# Altium footprint library SO-10.PcbLib: 1 footprints
Each footprint in its own frame and in the unit in brackets; x right, y up, seen from the top. Pads: shape width x height; smd on the part's side, far side on the other; paste and mask are expansions set on the pad; w line width, h text height; cw(c..) or ccw(c..) is an arc to the next point about the centre after c.
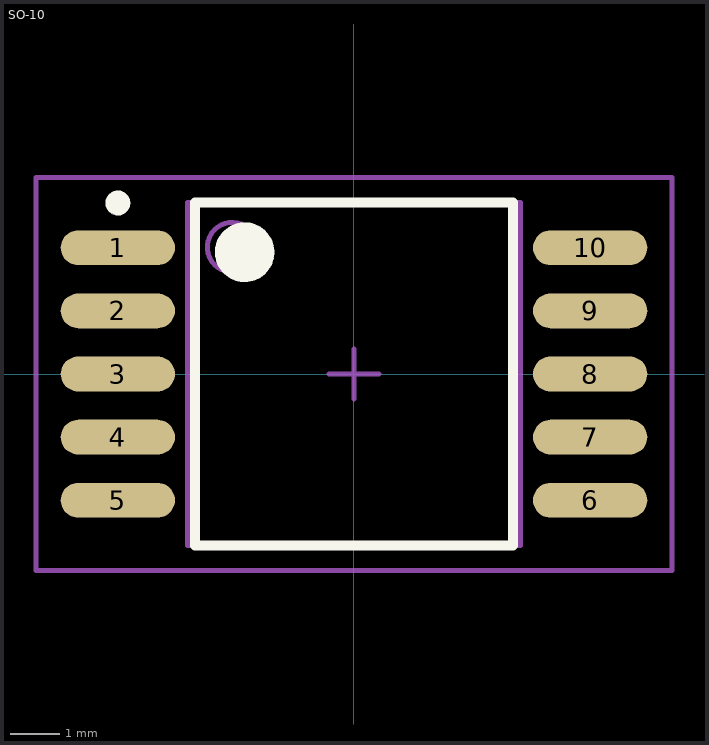
[diagram p0: the footprint, top view; thin cyan lines are the x and y axes]

## SO-10 [mm] "CERPACK, 10-Leads, Body 6.9x6.3mm, Pitch 1.27mm, IPC Low Density"
height 2.25
pads (10):
  oval 2.3x0.7 smd: 1(-4.75,2.54) 2(-4.75,1.27) 3(-4.75,0) 4(-4.75,-1.27) 5(-4.75,-2.54) 6(4.75,-2.54) 7(4.75,-1.27) 8(4.75,0) 9(4.75,1.27) 10(4.75,2.54)
Top Overlay:
  circle w0.25: c-4.75,3.44 r0.125
  circle w0.6: c-2.2,2.45 r0.3
  lines w0.2: -3.2,-3.45 -3.2,3.45 3.2,3.45 3.2,-3.45 -3.2,-3.45
Mechanical 13:
  circle w0.1: c-2.45,2.55 r0.5
  lines w0.1: -3.35,-3.45 -3.35,3.45 3.35,3.45 3.35,-3.45 -3.35,-3.45
Mechanical 15:
  lines w0.1: -0.5,0 0.5,0 ; 0,-0.5 0,0.5 ; -6.4,-3.95 -6.4,3.95 6.4,3.95 6.4,-3.95 -6.4,-3.95
3D body: height 2.25, standoff 0.1, extent -3.4,-3.5 3.4,3.5